# Altium schematic symbol library 常用芯片.SchLib: 3 symbols
Pins are listed as number, name and electrical type; pins without a type are passive.

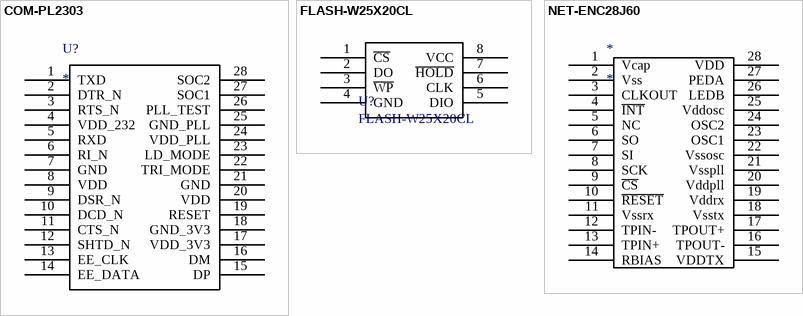
[diagram p0: symbols COM-PL2303 to NET-ENC28J60]

## COM-PL2303
designator U?
PL2303
footprint SSOP-28
pins: 1 TXD, 2 DTR_N, 3 RTS_N, 4 VDD_232, 5 RXD, 6 RI_N, 7 GND, 8 VDD, 9 DSR_N, 10 DCD_N, 11 CTS_N, 12 SHTD_N, 13 EE_CLK, 14 EE_DATA, 15 DP, 16 DM, 17 VDD_3V3, 18 GND_3V3, 19 RESET, 20 VDD, 21 GND, 22 TRI_MODE, 23 LD_MODE, 24 VDD_PLL, 25 GND_PLL, 26 PLL_TEST, 27 SOC1, 28 SOC2

## FLASH-W25X20CL
designator U?
W25X20CL
footprint SOP8
pins: 1 ~{CS} "My Pad", 2 DO "My Pad", 3 ~{WP} "My Pad", 4 GND "My Pad", 5 DIO "My Pad", 6 CLK "My Pad", 7 ~{HOLD} "My Pad", 8 VCC "My Pad"

## NET-ENC28J60
designator *
footprint SSOP-28
pins: 1 Vcap, 2 Vss, 3 CLKOUT, 4 ~{INT}, 5 NC, 6 SO, 7 SI, 8 SCK, 9 ~{CS}, 10 ~{RESET}, 11 Vssrx, 12 TPIN-, 13 TPIN+, 14 RBIAS, 15 VDDTX, 16 TPOUT-, 17 TPOUT+, 18 Vsstx, 19 Vddrx, 20 Vddpll, 21 Vsspll, 22 Vssosc, 23 OSC1, 24 OSC2, 25 Vddosc, 26 LEDB, 27 PEDA, 28 VDD